# EAGLE library part HCMS-297X (library HCMS-297X)
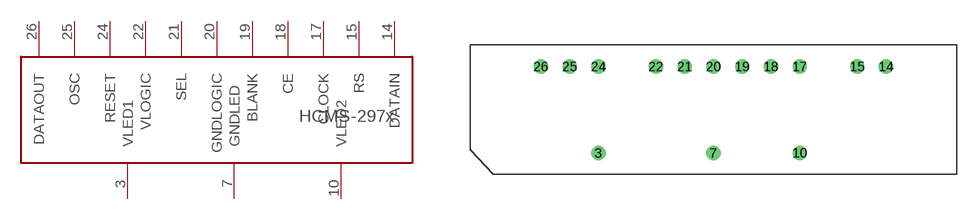
[diagram p0: symbol with the pads of HCMS-297X; footprint HCMS-297X]

Designator prefix -

## HCMS-297X  [HCMS-297X]
3  VLED1
7  GNDLED
10  VLED2
14  DATAIN
15  RS
17  CLOCK
18  CE
19  BLANK
20  GNDLOGIC
21  SEL
22  VLOGIC
24  RESET
25  OSC
26  DATAOUT

## Footprint HCMS-297X (pad centres in mm)
drill 0.6 pad 1.27 round: 3 -10.16,-3.81; 7 0,-3.81; 10 7.62,-3.81; 14 15.24,3.81; 15 12.7,3.81; 17 7.62,3.81; 18 5.08,3.81; 19 2.54,3.81; 20 0,3.81; 21 -2.54,3.81; 22 -5.08,3.81; 24 -10.16,3.81; 25 -12.7,3.81; 26 -15.24,3.81